# Altium schematic symbol library Term,Header,4x2 Pin,4.20mm.Schlib: 1 symbol
Pins are listed as number, name and electrical type; pins without a type are passive.

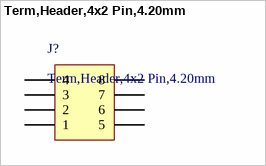
[diagram p0: symbol Term,Header,4x2 Pin,4.20mm]

## Term,Header,4x2 Pin,4.20mm
designator J?
Connector Header Through Hole 8 position 0.165" (4.20mm)
pins: 1, 2, 3, 4, 5, 6, 7, 8